# Altium footprint library ISO1640QDWRQ1.PcbLib: 4 footprints
Each footprint in its own frame and in the unit in brackets; x right, y up, seen from the top. Pads: shape width x height; smd on the part's side, far side on the other; paste and mask are expansions set on the pad; w line width, h text height; cw(c..) or ccw(c..) is an arc to the next point about the centre after c.
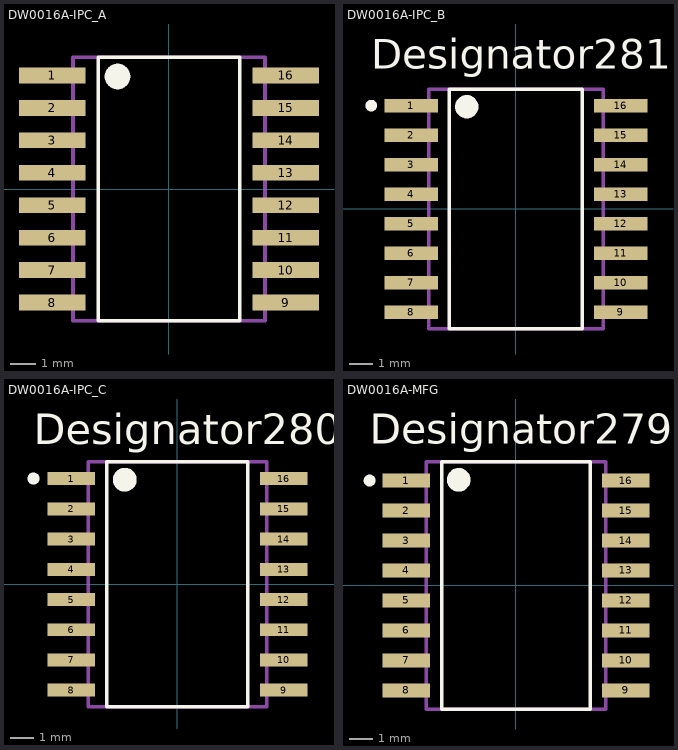
[diagram p0: the footprints below, top view; thin cyan lines are the x and y axes]

## DW0016A-IPC_A [mm]
pads (16):
  rect 2.603x0.622 smd paste+0 mask+0: 1(-4.565,4.445) 2(-4.565,3.175) 3(-4.565,1.905) 4(-4.565,0.635) 5(-4.565,-0.635) 6(-4.565,-1.905) 7(-4.565,-3.175) 8(-4.565,-4.445) 9(4.565,-4.445) 10(4.565,-3.175) 11(4.565,-1.905) 12(4.565,-0.635) 13(4.565,0.635) 14(4.565,1.905) 15(4.565,3.175) 16(4.565,4.445)
Top Overlay:
  circle w0.5: c-2.014,4.4 r0.25
  lines w0.15: -2.764,-5.15 2.764,-5.15 2.764,5.15 -2.764,5.15 -2.764,-5.15
Mechanical 13:
  lines w0.15: -3.75,-5.15 3.75,-5.15 3.75,5.15 -3.75,5.15 -3.75,-5.15
3D body "DW0016A.stp": height 2.59, standoff 0, extent -5.167,-5.15 5.167,5.15
3D body: height 0.25, standoff 0, extent 0,0 0.254,0.254

## DW0016A-IPC_B [mm]
pads (16):
  rect 2.303x0.582 smd paste+0 mask+0: 1(-4.515,4.445) 2(-4.515,3.175) 3(-4.515,1.905) 4(-4.515,0.635) 5(-4.515,-0.635) 6(-4.515,-1.905) 7(-4.515,-3.175) 8(-4.515,-4.445) 9(4.515,-4.445) 10(4.515,-3.175) 11(4.515,-1.905) 12(4.515,-0.635) 13(4.515,0.635) 14(4.515,1.905) 15(4.515,3.175) 16(4.515,4.445)
Top Overlay:
  circle w0.5: c-2.114,4.4 r0.25
  circle w0.25: c-6.225,4.45 r0.125
  lines w0.15: -2.864,-5.15 2.864,-5.15 2.864,5.15 -2.864,5.15 -2.864,-5.15
  text "Designator281" at -6.223,6.045 h1.27
Mechanical 13:
  lines w0.15: -3.75,-5.15 3.75,-5.15 3.75,5.15 -3.75,5.15 -3.75,-5.15
  text ".Designator" at 0,-0.635 h1.27
3D body: height 0.25, standoff 0, extent 0,0 0.254,0.254

## DW0016A-IPC_C [mm]
pads (16):
  rect 2.003x0.542 smd paste+0 mask+0: 1(-4.465,4.445) 2(-4.465,3.175) 3(-4.465,1.905) 4(-4.465,0.635) 5(-4.465,-0.635) 6(-4.465,-1.905) 7(-4.465,-3.175) 8(-4.465,-4.445) 9(4.465,-4.445) 10(4.465,-3.175) 11(4.465,-1.905) 12(4.465,-0.635) 13(4.465,0.635) 14(4.465,1.905) 15(4.465,3.175) 16(4.465,4.445)
Top Overlay:
  circle w0.5: c-2.214,4.4 r0.25
  circle w0.25: c-6.05,4.45 r0.125
  lines w0.15: -2.964,-5.15 2.964,-5.15 2.964,5.15 -2.964,5.15 -2.964,-5.15
  text "Designator280" at -6.045,5.893 h1.27
Mechanical 13:
  lines w0.15: -3.75,-5.15 3.75,-5.15 3.75,5.15 -3.75,5.15 -3.75,-5.15
  text ".Designator" at 0,-0.635 h1.27
3D body: height 0.25, standoff 0, extent 0,0 0.254,0.254

## DW0016A-MFG [mm]
pads (16):
  rect 2x0.6 smd paste+0 mask+0: 1(-4.65,4.445) 2(-4.65,3.175) 3(-4.65,1.905) 4(-4.65,0.635) 5(-4.65,-0.635) 6(-4.65,-1.905) 7(-4.65,-3.175) 8(-4.65,-4.445) 9(4.65,-4.445) 10(4.65,-3.175) 11(4.65,-1.905) 12(4.65,-0.635) 13(4.65,0.635) 14(4.65,1.905) 15(4.65,3.175) 16(4.65,4.445)
Top Overlay:
  circle w0.5: c-2.425,4.475 r0.25
  circle w0.25: c-6.2,4.445 r0.125
  lines w0.15: -3.15,-5.25 -3.15,5.25 3.15,5.25 3.15,-5.25 -3.15,-5.25
  text "Designator279" at -6.198,5.994 h1.27
Mechanical 13:
  lines w0.15: -3.8,-5.25 -3.8,5.25 3.8,5.25 3.8,-5.25 -3.8,-5.25
  text ".Designator" at 0,-0.635 h1.27
3D body: height 0.25, standoff 0, extent 0,0 0.254,0.254